# Altium schematic symbol library MacroQMK.SchLib: 11 symbols
Pins are listed as number, name and electrical type; pins without a type are passive.

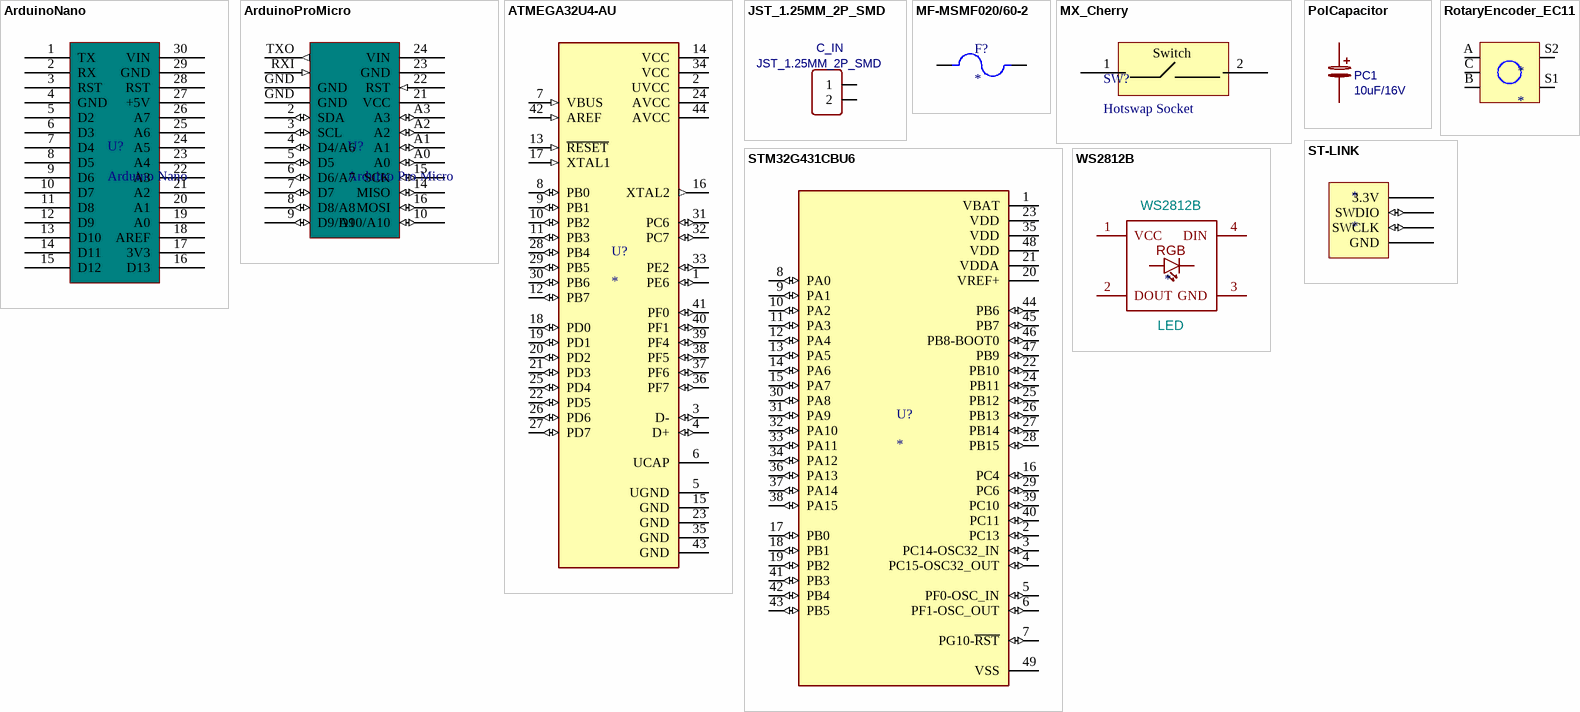
[diagram p0: symbols ArduinoNano to WS2812B]

## ArduinoNano
designator U?, comment Arduino Nano
footprint ArduinoNano
pins: 1 TX, 2 RX, 3 RST, 4 GND, 5 D2, 6 D3, 7 D4, 8 D5, 9 D6, 10 D7, 11 D8, 12 D9, 13 D10, 14 D11, 15 D12, 16 D13, 17 3V3, 18 AREF, 19 A0, 20 A1, 21 A2, 22 A3, 23 A4, 24 A5, 25 A6, 26 A7, 27 +5V, 28 RST, 29 GND, 30 VIN

## ArduinoProMicro
designator U?, comment Arduino Pro Micro
footprint ArduinoProMicro
pins: 2 SDA (io), 3 SCL (io), 4 D4/A6 (io), 5 D5 (io), 6 D6/A7 (io), 7 D7 (io), 8 D8/A8 (io), 9 D9/A9 (io), 10 D10/A10 (io), 14 MISO (io), 15 SCK (io), 16 MOSI (io), 21 VCC (power), 22 RST (in), 23 GND (power), 24 VIN (power), A0 (io), A1 (io), A2 (io), A3 (io), GND (power), GND (power), RXI (in), TXO (out)

## ATMEGA32U4-AU
designator U?
AVR AVRÂ® ATmega Microcontroller IC 8-Bit 16MHz 32KB (16K x 16) FLASH 44-TQFP (10x10); MF: Microchip Technology; MP: ATMEGA32U4-AU; Value: *; Purchase-URL: https://pricing.snapeda.com/search/part/ATMEGA32U4-AU/?ref=eda; Availability: In Stock; Price: None; Package: TQFP-44 Microchip
footprint QFP80P1200X1200X120-44N
pins: 1 PE6 (io), 2 UVCC (power), 3 D- (io), 4 D+ (io), 5 UGND (power), 6 UCAP, 7 VBUS (in), 8 PB0 (io), 9 PB1 (io), 10 PB2 (io), 11 PB3 (io), 12 PB7 (io), 13 ~{RESET} (in), 14 VCC (power), 15 GND (power), 16 XTAL2 (out), 17 XTAL1 (in), 18 PD0 (io), 19 PD1 (io), 20 PD2 (io), 21 PD3 (io), 22 PD5 (io), 23 GND (power), 24 AVCC (power), 25 PD4 (io), 26 PD6 (io), 27 PD7 (io), 28 PB4 (io), 29 PB5 (io), 30 PB6 (io), 31 PC6 (io), 32 PC7 (io), 33 PE2 (io), 34 VCC (power), 35 GND (power), 36 PF7 (io), 37 PF6 (io), 38 PF5 (io), 39 PF4 (io), 40 PF1 (io), 41 PF0 (io), 42 AREF (in), 43 GND (power), 44 AVCC (power)

## JST_1.25MM_2P_SMD
designator C_IN
Contributor: LCEDA_Lib; Package Display: No; BOM_Supplier Part: C49661; BOM_Supplier: LCSC; spicePre: H; spiceSymbolName: HDR-F-2.54_1x2
footprint JST_1.25MM_2P_SMD
pins: 1, 2

## MF-MSMF020/60-2
designator F?
Polymeric PTC Resettable Fuse 60V 200mA Ih Surface Mount 1812 (4532 Metric), Concave; MF: Bourns; MP: MF-MSMF020/60-2; Purchase-URL: https://pricing.snapeda.com/search/part/MF-MSMF020/60-2/?ref=eda; Value: *; Package: 1812 Bourns; Check_prices: https://www.snapeda.com/parts/MF-MSMF020/60-2/Bourns/view-part/?ref=eda; Price: None; Availability: In Stock; SnapEDA_Link: https://www.snapeda.com/parts/MF-MSMF020/60-2/Bourns/view-part/?ref=snap
footprint FUSER_MF-MSMF020/60-2
pins: 1, 2

## MX_Cherry
designator SW?, comment Hotswap Socket
footprint MX-Hotswap-Template
pins: 1, 2
text: Switch

## PolCapacitor
designator PC1, comment 10uF/16V
nameAlias: Value(F); Package Display: No; BOM_Manufacturer Part: ?; spicePre: C; spiceSymbolName: Capacitor
footprint CAP POL 1206_3216 (Molded Capacitor, 2-Leads, Body 3.20x1.6mm, IPC Medium Density)
pins: 1, 2

## RotaryEncoder_EC11
designator *
footprint RotaryEncoder_EC11
pins: A, B, C, S1, S2

## ST-LINK
designator *
footprint 4PIN 2.54
pins: 1 3.3V (power), 2 SWDIO (io), 3 SWCLK (io), 4 GND (power)

## STM32G431CBU6
designator U?
ARM® Cortex®-M4F STM32G4 Microcontroller IC 32-Bit Single-Core 170MHz 128KB (128K x 8) FLASH 48-UFQFPN (7x7); MF: STMicroelectronics; MP: STM32G431CBU6; SnapEDA_Link: https://www.snapeda.com/parts/STM32G431CBU6/STMicroelectronics/view-part/?ref=snap; Package: UFQFN-48 STMicroelectronics; Value: *; Check_prices: https://www.snapeda.com/parts/STM32G431CBU6/STMicroelectronics/view-part/?ref=eda
footprint QFN50P700X700X60-49N
pins: 1 VBAT (power), 2 PC13 (io), 3 PC14-OSC32_IN (io), 4 PC15-OSC32_OUT (io), 5 PF0-OSC_IN (io), 6 PF1-OSC_OUT (io), 7 PG10-~{RST} (io), 8 PA0 (io), 9 PA1 (io), 10 PA2 (io), 11 PA3 (io), 12 PA4 (io), 13 PA5 (io), 14 PA6 (io), 15 PA7 (io), 16 PC4 (io), 17 PB0 (io), 18 PB1 (io), 19 PB2 (io), 20 VREF+ (power), 21 VDDA (power), 22 PB10 (io), 23 VDD (power), 24 PB11 (io), 25 PB12 (io), 26 PB13 (io), 27 PB14 (io), 28 PB15 (io), 29 PC6 (io), 30 PA8 (io), 31 PA9 (io), 32 PA10 (io), 33 PA11 (io), 34 PA12 (io), 35 VDD (power), 36 PA13 (io), 37 PA14 (io), 38 PA15 (io), 39 PC10 (io), 40 PC11 (io), 41 PB3 (io), 42 PB4 (io), 43 PB5 (io), 44 PB6 (io), 45 PB7 (io), 46 PB8-BOOT0 (io), 47 PB9 (io), 48 VDD (power), 49 VSS (power)

## WS2812B
designator LED  value WS2812B
footprint WS2812B
pins: 1 VCC, 2 DOUT, 3 GND, 4 DIN
text: RGB